# EAGLE library part STM32L15XRBT6 (library My_STM32L15x)
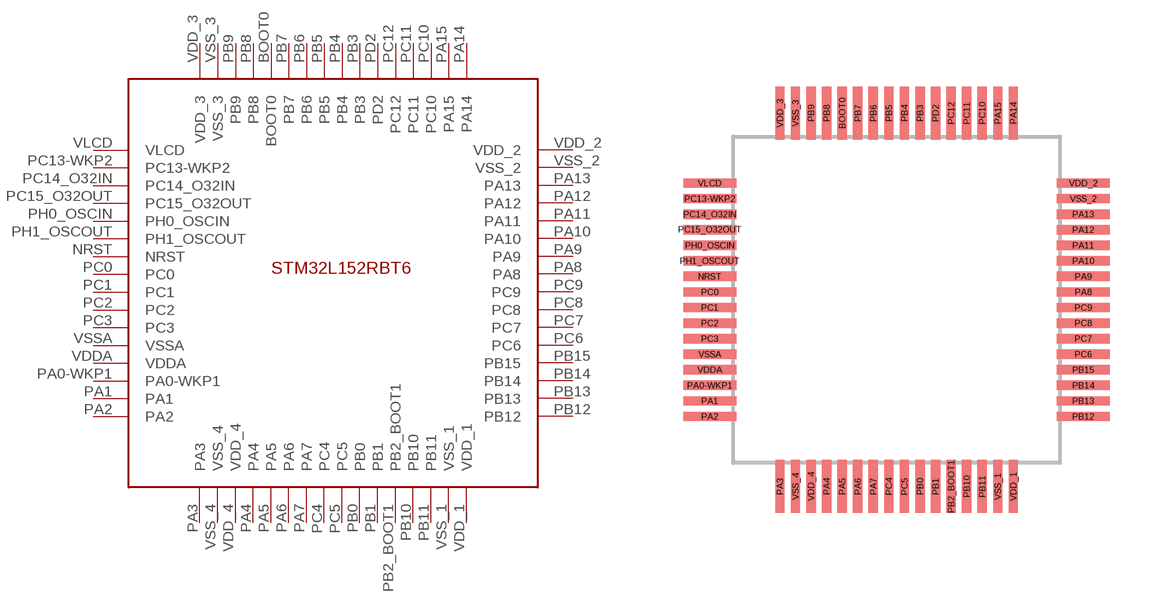
[diagram p0: symbol with the pads of STM32L152RBT6; footprint STM32L152RBT6]

Designator prefix -

## STM32L15XRBT6  [STM32L152RBT6]
BOOT0  BOOT0
NRST  NRST
PA0-WKP1  PA0-WKP1
PA1  PA1
PA2  PA2
PA3  PA3
PA4  PA4
PA5  PA5
PA6  PA6
PA7  PA7
PA8  PA8
PA9  PA9
PA10  PA10
PA11  PA11
PA12  PA12
PA13  PA13
PA14  PA14
PA15  PA15
PB0  PB0
PB1  PB1
PB2_BOOT1  PB2_BOOT1
PB3  PB3
PB4  PB4
PB5  PB5
PB6  PB6
PB7  PB7
PB8  PB8
PB9  PB9
PB10  PB10
PB11  PB11
PB12  PB12
PB13  PB13
PB14  PB14
PB15  PB15
PC0  PC0
PC1  PC1
PC2  PC2
PC3  PC3
PC4  PC4
PC5  PC5
PC6  PC6
PC7  PC7
PC8  PC8
PC9  PC9
PC10  PC10
PC11  PC11
PC12  PC12
PC13-WKP2  PC13-WKP2
PC14_O32IN  PC14_O32IN
PC15_O32OUT  PC15_O32OUT
PD2  PD2
PH0_OSCIN  PH0_OSCIN
PH1_OSCOUT  PH1_OSCOUT
VDD_1  VDD_1
VDD_2  VDD_2
VDD_3  VDD_3
VDD_4  VDD_4
VDDA  VDDA
VLCD  VLCD
VSS_1  VSS_1
VSS_2  VSS_2
VSS_3  VSS_3
VSS_4  VSS_4
VSSA  VSSA

## Footprint STM32L152RBT6 (pad centres in mm)
smd 0.3 x 1.7: BOOT0 -1.75,6; PA3 -3.75,-6; PA4 -2.25,-6; PA5 -1.75,-6; PA6 -1.25,-6; PA7 -0.75,-6; PA14 3.75,6; PA15 3.25,6; PB0 0.75,-6; PB1 1.25,-6; PB2_BOOT1 1.75,-6; PB3 0.75,6; PB4 0.25,6; PB5 -0.25,6; PB6 -0.75,6; PB7 -1.25,6; PB8 -2.25,6; PB9 -2.75,6; PB10 2.25,-6; PB11 2.75,-6; PC4 -0.25,-6; PC5 0.25,-6; PC10 2.75,6; PC11 2.25,6; PC12 1.75,6; PD2 1.25,6; VDD_1 3.75,-6; VDD_3 -3.75,6; VDD_4 -2.75,-6; VSS_1 3.25,-6; VSS_3 -3.25,6; VSS_4 -3.25,-6
smd 1.7 x 0.3: NRST -6,0.75; PA0-WKP1 -6,-2.75; PA1 -6,-3.25; PA2 -6,-3.75; PA8 6,0.25; PA9 6,0.75; PA10 6,1.25; PA11 6,1.75; PA12 6,2.25; PA13 6,2.75; PB12 6,-3.75; PB13 6,-3.25; PB14 6,-2.75; PB15 6,-2.25; PC0 -6,0.25; PC1 -6,-0.25; PC2 -6,-0.75; PC3 -6,-1.25; PC6 6,-1.75; PC7 6,-1.25; PC8 6,-0.75; PC9 6,-0.25; PC13-WKP2 -6,3.25; PC14_O32IN -6,2.75; PC15_O32OUT -6,2.25; PH0_OSCIN -6,1.75; PH1_OSCOUT -6,1.25; VDD_2 6,3.75; VDDA -6,-2.25; VLCD -6,3.75; VSS_2 6,3.25; VSSA -6,-1.75